# EAGLE library part ATMEGA328P-PU (library Programmer)
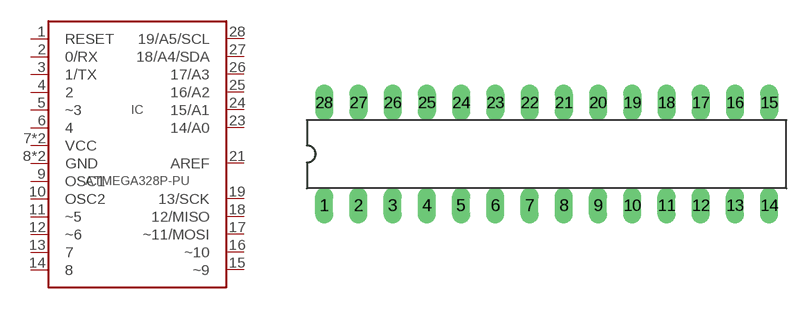
[diagram p0: symbol with the pads of DIP28; footprint DIP28]

Designator prefix IC

## ATMEGA328P-PU  [DIP28]
1  RESET
2  0/RX
3  1/TX
4  2
5  ~3
6  4
7  VCC
8  GND
9  OSC1
10  OSC2
11  ~5
12  ~6
13  7
14  8
15  ~9
16  ~10
17  ~11/MOSI
18  12/MISO
19  13/SCK
20  VCC
21  AREF
22  GND
23  14/A0
24  15/A1
25  16/A2
26  17/A3
27  18/A4/SDA
28  19/A5/SCL

## Footprint DIP28 (pad centres in mm)
Dual In Line
drill 0.813 long: 1 -16.51,-3.81; 2 -13.97,-3.81; 3 -11.43,-3.81; 4 -8.89,-3.81; 5 -6.35,-3.81; 6 -3.81,-3.81; 7 -1.27,-3.81; 8 1.27,-3.81; 9 3.81,-3.81; 10 6.35,-3.81; 11 8.89,-3.81; 12 11.43,-3.81; 13 13.97,-3.81; 14 16.51,-3.81; 15 16.51,3.81; 16 13.97,3.81; 17 11.43,3.81; 18 8.89,3.81; 19 6.35,3.81; 20 3.81,3.81; 21 1.27,3.81; 22 -1.27,3.81; 23 -3.81,3.81; 24 -6.35,3.81; 25 -8.89,3.81; 26 -11.43,3.81; 27 -13.97,3.81; 28 -16.51,3.81